# Altium footprint library rcl.PCBLIB: 164 footprints (part 11 of 11)
Each footprint in its own frame and in the unit in brackets; x right, y up, seen from the top. Pads: shape width x height; smd on the part's side, far side on the other; paste and mask are expansions set on the pad; w line width, h text height; cw(c..) or ccw(c..) is an arc to the next point about the centre after c.
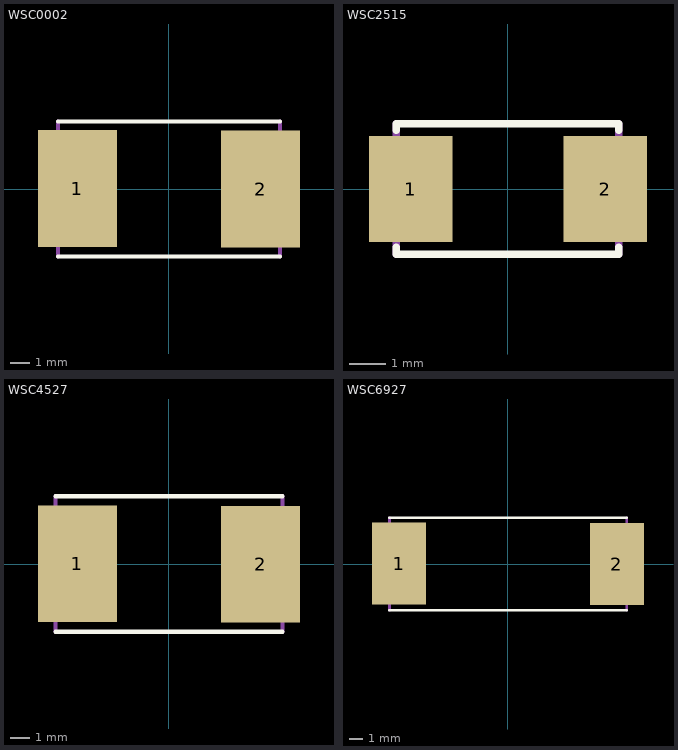
[diagram p10: the footprints below, top view; thin cyan lines are the x and y axes]

## WSC0002 [mil]
pads (2):
  rect 156x230 smd: 1(-180.12,1) 2(181,0)
Top Overlay:
  lines w8: -218.5,-132.87 219,-132.87 ; -218.5,133 219,133
Mechanical 16:
  lines w8: -218.5,-132.87 -218.5,133 ; 219,-132.87 219,133

## WSC2515 [mil]
pads (2):
  rect 91x115 smd: 1(-105.31,0) 2(106,0)
Top Overlay:
  lines w8: -121.06,-63.23 -121.06,-70.87 121,-70.87 121,-63.23 ; -121.06,64 -121.06,71 121,71 121,64
Mechanical 16:
  lines w8: -121.06,-70.87 -121.06,71 ; 121,-70.87 121,71

## WSC4527 [mil]
pads (2):
  rect 156x230 smd: 1(-180.12,1) 2(181,0)
Top Overlay:
  lines w8: -223.43,-132.87 224,-132.87 ; -223.43,134 224,134
Mechanical 16:
  lines w8: -223.43,-132.87 -223.43,134 ; 224,-132.87 224,134

## WSC6927 [mil]
pads (2):
  rect 156x236 smd: 1(-312.99,1) 2(313,0)
Top Overlay:
  lines w8: -340.55,-132.87 341,-132.87 ; -340.55,133 341,133
Mechanical 16:
  lines w8: -340.55,-132.87 -340.55,133 ; 341,-132.87 341,133